# EAGLE library part 87264-42 (library con-molex-milli-grid)
RECEPTACAL
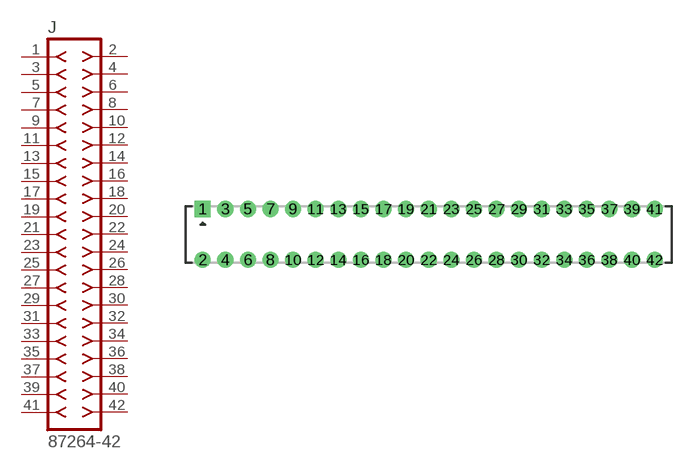
[diagram p222: symbol with the pads of 87264-42; footprint 87264-42]

Designator prefix J

## 87264-42  [87264-42]
1  1  pas
2  2  pas
3  3  pas
4  4  pas
5  5  pas
6  6  pas
7  7  pas
8  8  pas
9  9  pas
10  10  pas
11  11  pas
12  12  pas
13  13  pas
14  14  pas
15  15  pas
16  16  pas
17  17  pas
18  18  pas
19  19  pas
20  20  pas
21  21  pas
22  22  pas
23  23  pas
24  24  pas
25  25  pas
26  26  pas
27  27  pas
28  28  pas
29  29  pas
30  30  pas
31  31  pas
32  32  pas
33  33  pas
34  34  pas
35  35  pas
36  36  pas
37  37  pas
38  38  pas
39  39  pas
40  40  pas
41  41  pas
42  42  pas

## Footprint 87264-42 (pad centres in mm)
RECEPTACAL Dual Row, Side Entry
drill 0.914 square: 1 -20,2.25
drill 0.914: 2 -20,-2.25; 3 -18,2.25; 4 -18,-2.25; 5 -16,2.25; 6 -16,-2.25; 7 -14,2.25; 8 -14,-2.25; 9 -12,2.25; 10 -12,-2.25; 11 -10,2.25; 12 -10,-2.25; 13 -8,2.25; 14 -8,-2.25; 15 -6,2.25; 16 -6,-2.25; 17 -4,2.25; 18 -4,-2.25; 19 -2,2.25; 20 -2,-2.25; 21 0,2.25; 22 0,-2.25; 23 2,2.25; 24 2,-2.25; 25 4,2.25; 26 4,-2.25; 27 6,2.25; 28 6,-2.25; 29 8,2.25; 30 8,-2.25; 31 10,2.25; 32 10,-2.25; 33 12,2.25; 34 12,-2.25; 35 14,2.25; 36 14,-2.25; 37 16,2.25; 38 16,-2.25; 39 18,2.25; 40 18,-2.25; 41 20,2.25; 42 20,-2.25